# Altium footprint library components.PcbLib: 23 footprints (part 2 of 2)
Each footprint in its own frame and in the unit in brackets; x right, y up, seen from the top. Pads: shape width x height; smd on the part's side, far side on the other; paste and mask are expansions set on the pad; w line width, h text height; cw(c..) or ccw(c..) is an arc to the next point about the centre after c.
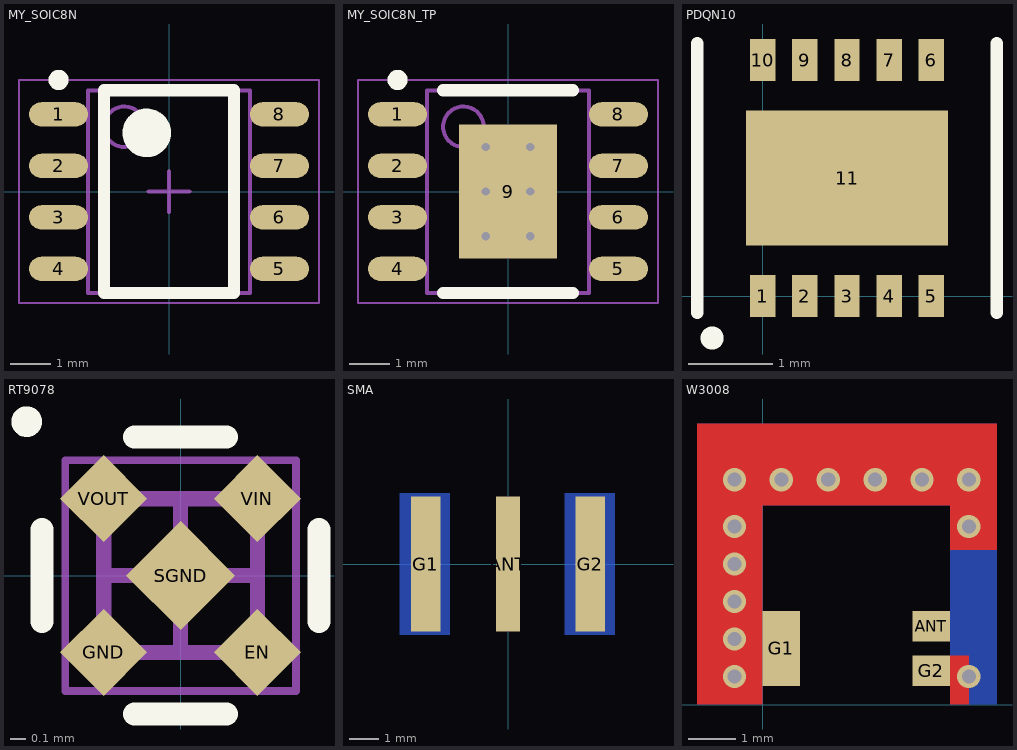
[diagram p1: the footprints below, top view; thin cyan lines are the x and y axes]

## MY_SOIC8N [mm]
height 2.65
pads (8):
  oval 1.45x0.6 smd: 1(-2.725,1.905) 2(-2.725,0.635) 3(-2.725,-0.635) 4(-2.725,-1.905) 5(2.725,-1.905) 6(2.725,-0.635) 7(2.725,0.635) 8(2.725,1.905)
Top Overlay:
  circle w0.25: c-2.725,2.755 r0.125
  circle w0.6: c-0.55,1.45 r0.3
  lines w0.3: -1.6,-2.5 -1.6,2.5 1.6,2.5 1.6,-2.5 -1.6,-2.5
Mechanical 13:
  circle w0.1: c-1.1,1.6 r0.5
  lines w0.1: -2,-2.5 -2,2.5 2,2.5 2,-2.5 -2,-2.5
Mechanical 15:
  lines w0.05: -3.7,-2.75 -3.7,2.75 3.7,2.75 3.7,-2.75 -3.7,-2.75
  lines w0.1: -0.5,0 0.5,0 ; 0,-0.5 0,0.5
3D body: height 2.65, standoff 0.1, extent -2,-2.5 2,2.5

## MY_SOIC8N_TP [mm] "SOIC, 8-Leads, Body 4.90x3.90mm, Pitch 1.27mm, Thermal Pad 3.30x2.41mm, IPC Medium Density"
height 2.65
pads (9):
  oval 1.45x0.6 smd: 1(-2.725,1.905) 2(-2.725,0.635) 3(-2.725,-0.635) 4(-2.725,-1.905) 5(2.725,-1.905) 6(2.725,-0.635) 7(2.725,0.635) 8(2.725,1.905)
  rect 2.41x3.3 smd: 9(0,0)
via -0.55,1.1 diameter 0.5 hole 0.2
via 0.55,1.1 diameter 0.5 hole 0.2
via -0.55,0 diameter 0.5 hole 0.2
via 0.55,0 diameter 0.5 hole 0.2
via -0.55,-1.1 diameter 0.5 hole 0.2
via 0.55,-1.1 diameter 0.5 hole 0.2
Top Overlay:
  circle w0.25: c-2.725,2.755 r0.125
  lines w0.3: -1.6,-2.5 1.6,-2.5 ; -1.6,2.5 1.6,2.5
Mechanical 13:
  circle w0.1: c-1.1,1.6 r0.5
  lines w0.1: -2,-2.5 -2,2.5 2,2.5 2,-2.5 -2,-2.5
Mechanical 15:
  lines w0.05: -3.7,-2.75 -3.7,2.75 3.7,2.75 3.7,-2.75 -3.7,-2.75
  lines w0.1: -0.5,0 0.5,0 ; 0,-0.5 0,0.5
3D body: height 2.65, standoff 0.1, extent -2,-2.5 2,2.5

## PCBComponent_1 [mm]

## PDQN10 [mm]
pads (11):
  rect 0.3x0.5 smd: 1(0,0) 2(0.5,0) 3(1,0) 4(1.5,0) 5(2,0) 6(2,2.8) 7(1.5,2.8) 8(1,2.8) 9(0.5,2.8) 10(0,2.8)
  rect 2.4x1.6 smd: 11(1,1.4)
Top Overlay:
  circle w0.254: c-0.6,-0.5 r0.01
  lines w0.15: -0.775,-0.2 -0.775,1.4 ; -0.775,0.8 -0.775,3 ; 2.775,-0.2 2.775,1.4 ; 2.775,1.3 2.775,3

## RT9078 [mm] "DFN, 4-Leads, Body 1.00x1.00mm, Pitch 0.63mm, IPC Medium Density"
height 0.45
pads (5):
  rect 0.4x0.4 smd rot 45: EN(0.5,-0.5) GND(-0.5,-0.5) VIN(0.5,0.5) VOUT(-0.5,0.5)
  rect 0.5x0.5 smd rot 45: SGND(0,0)
Top Overlay:
  circle w0.1: c-1,1 r0.05
  lines w0.15: -0.9,-0.3 -0.9,0.3 ; -0.3,-0.9 0.3,-0.9 ; -0.3,0.9 0.3,0.9 ; 0.9,-0.3 0.9,0.3
Mechanical 13:
  lines w0.1: -0.5,-0.5 0.5,-0.5 0.5,0.5 -0.5,0.5 -0.5,-0.5
Mechanical 15:
  lines w0.05: -0.75,-0.75 0.75,-0.75 0.75,0.75 -0.75,0.75 -0.75,-0.75
  lines w0.1: -0.5,0 0.5,0 ; 0,-0.5 0,0.5
3D body: height 0.45, standoff 0.1, extent -0.5,-0.5 0.5,0.5

## SMA [mm]
pads (3):
  rect 0.82x4.56 smd: ANT(0,0)
  rect 1x4.56 smd: G1(-2.775,0) G2(2.775,0)
Bottom Layer:
  rectangle: 1.9,-2.4 3.6,2.4
  rectangle: -3.65,-2.4 -1.95,2.4

## W3008 [mm]
pads (3):
  rect 0.8x0.65 smd paste+0 mask+0: ANT(3.6,1.675) G2(3.6,0.725)
  rect 0.8x1.6 smd paste+0 mask+0: G1(0.4,1.2)
via 4.4,3.8 diameter 0.5 hole 0.3
via 4.4,4.8 diameter 0.5 hole 0.3
via 3.4,4.8 diameter 0.5 hole 0.3
via 2.4,4.8 diameter 0.5 hole 0.3
via 1.4,4.8 diameter 0.5 hole 0.3
via 0.4,4.8 diameter 0.5 hole 0.3
via -0.6,4.8 diameter 0.5 hole 0.3
via 4.4,0.6 diameter 0.5 hole 0.3
via -0.6,3.8 diameter 0.5 hole 0.3
via -0.6,3 diameter 0.5 hole 0.3
via -0.6,2.2 diameter 0.5 hole 0.3
via -0.6,1.4 diameter 0.5 hole 0.3
via -0.6,0.6 diameter 0.5 hole 0.3
Top Layer:
  rectangle: -1.4,0 0,6
  rectangle: -0.2,4.25 4.8,6
  rectangle: 4,3.3 5,6
  rectangle: 4,0 4.4,1.05
Bottom Layer:
  rectangle: -1.4,0 0,6
  rectangle: 4,0 5,6
  rectangle: -1,4.25 5,6
Top Solder:
  rectangle: 0,0 4,4.25